# Altium schematic symbol library LH1546AEFTR.SchLib: 2 symbols
Pins are listed as number, name and electrical type; pins without a type are passive.

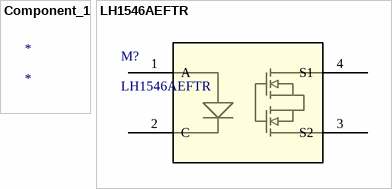
[diagram p0: symbols Component_1 to LH1546AEFTR]

## Component_1
designator *

## LH1546AEFTR
designator M?
Solid State SPST-NO (1 Form A) 4-SOP (0.173", 4.40mm); Mfr_Name: Vishay; Copyright: Copyright (C) 2024 Ultra Librarian. All rights reserved.; Manufacturer_Part_Number: LH1546AEFTR; RefDes: RefDes; Type: DEV
footprint SO_6AEFTR_VIS
pins: 1 A, 2 C, 3 S2, 4 S1